# Altium integrated library TI_Logic_Little_Logic.IntLib: 1164 symbols (part 27 of 35)
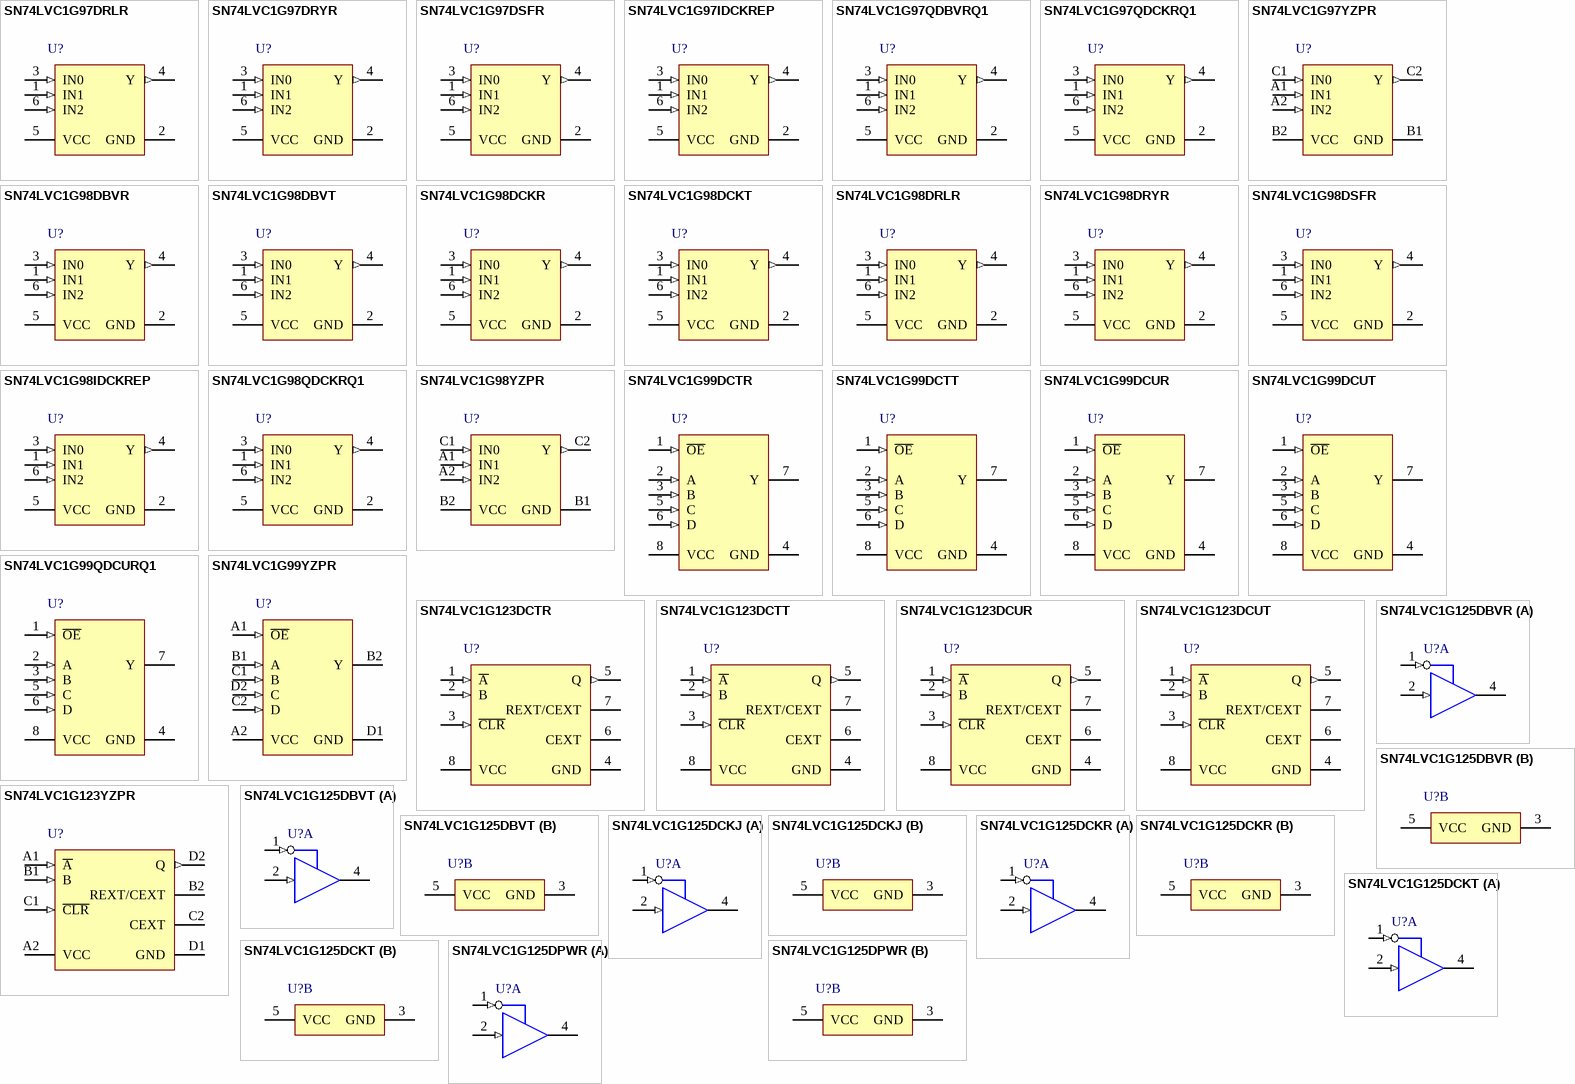
[diagram p86: symbols SN74LVC1G97DRLR to SN74LVC1G125DPWR]

## SN74LVC1G98YZPR
designator U?
Configurable Multiple-Function Gate, YZP0006ADAD, LARGE T&R; Generic Part Number: SN74LVC1G98; Manufacturer: Texas Instruments; PartNumber: SN74LVC1G98YZPR; VCC(Min)(V): 1.65; VCC(Max)(V): 5.5; Output Type: CMOS; ICC @ Nom Voltage(Max)(mA): 0.01; Input Type: CMOS/TTL; Bits(#): 1; F @ Nom Voltage(Max)(Mhz): 150; Rating: Catalog; Technology Family: LVC; Voltage(Nom)(V): 1.8,2.5,3.3,5; Schmitt Trigger: No; Output Drive (IOL/IOH)(Max)(mA): 32/-32; tpd @ Nom Voltage(Max)(ns): 16.4,9.3,7.3,6.1; Logic: True; Sub-Family: Configurable Logic; DatasheetVersion: SCES417L; PackageReference: YZP0006ADAD; Supplier 1: Mouser; Supplier Part Number 1: 595-SN74LVC1G98YZPR; Supplier 2: Digi-Key; Supplier Part Number 2: 296-23274-2-ND; Supplier 3: Digi-Key; Supplier Part Number 3: 296-23274-1-ND; Supplier 4: Digi-Key; Supplier Part Number 4: 296-23274-6-ND; Operating Temperature Range(C): -40 to 125; Gate Type: Configurable; 3-State Output: No; ComponentLink1Description: Manufacturer URL; ComponentLink1URL: http://www.ti.com/; ComponentLink2Description: Datasheet; ComponentLink2URL: http://www.ti.com/lit/ds/symlink/sn74lvc1g98.pdf
footprint YZP0006ADAD (BGA, 6-Balls, Body 1.39x0.89mm, Pitch 0.5mm)
pins: A1 IN1 (in), A2 IN2 (in), B1 GND (power), B2 VCC (power), C1 IN0 (in), C2 Y (out)

## SN74LVC1G99DCTR
designator U?
Ultra-Configurable Multi-Function Gate With 3-State Outputs, DCT0008A, LARGE T&R; Generic Part Number: SN74LVC1G99; Manufacturer: Texas Instruments; PartNumber: SN74LVC1G99DCTR; VCC(Min)(V): 1.65; VCC(Max)(V): 5.5; Output Type: CMOS; ICC @ Nom Voltage(Max)(mA): 0.01; Input Type: CMOS/TTL; Bits(#): 1; F @ Nom Voltage(Max)(Mhz): 150; Rating: Catalog; Technology Family: LVC; Voltage(Nom)(V): 1.8,2.5,3.3,5; Schmitt Trigger: No; Output Drive (IOL/IOH)(Max)(mA): 32/-32; tpd @ Nom Voltage(Max)(ns): 30.8,11.7,8.4,5.5; Logic: True; Sub-Family: Configurable Logic; 3-State Output: Yes; DatasheetVersion: SCES609G; PackageReference: DCT0008A; Supplier 1: Mouser; Supplier Part Number 1: 595-SN74LVC1G99DCTR; Supplier 2: Digi-Key; Supplier Part Number 2: 296-18590-2-ND; Supplier 3: Digi-Key; Supplier Part Number 3: 296-18590-1-ND; Supplier 4: Digi-Key; Supplier Part Number 4: 296-18590-6-ND; Operating Temperature Range(C): -40 to 125; Gate Type: Configurable; ComponentLink1Description: Manufacturer URL; ComponentLink1URL: http://www.ti.com/; ComponentLink2Description: Datasheet; ComponentLink2URL: http://www.ti.com/lit/ds/symlink/sn74lvc1g99.pdf
footprint DCT0008A_N (SOP, 8-Leads, Body 2.9x3.2mm, Pitch 0.65mm, IPC Medium Density)
footprint DCT0008A_M (SOP, 8-Leads, Body 2.9x3.2mm, Pitch 0.65mm, IPC Low Density)
footprint DCT0008A_L (SOP, 8-Leads, Body 2.9x3.2mm, Pitch 0.65mm, IPC High Density)
pins: 1 ~{OE} (in), 2 A (in), 3 B (in), 4 GND (power), 5 C (in), 6 D (in), 7 Y (hiz), 8 VCC (power)

## SN74LVC1G99DCTT
designator U?
Ultra-Configurable Multi-Function Gate With 3-State Outputs, DCT0008A, SMALL T&R; Generic Part Number: SN74LVC1G99; Manufacturer: Texas Instruments; PartNumber: SN74LVC1G99DCTT; VCC(Min)(V): 1.65; VCC(Max)(V): 5.5; Output Type: CMOS; ICC @ Nom Voltage(Max)(mA): 0.01; Input Type: CMOS/TTL; Bits(#): 1; F @ Nom Voltage(Max)(Mhz): 150; Rating: Catalog; Technology Family: LVC; Voltage(Nom)(V): 1.8,2.5,3.3,5; Schmitt Trigger: No; Output Drive (IOL/IOH)(Max)(mA): 32/-32; tpd @ Nom Voltage(Max)(ns): 30.8,11.7,8.4,5.5; Logic: True; Sub-Family: Configurable Logic; 3-State Output: Yes; DatasheetVersion: SCES609G; PackageReference: DCT0008A; Supplier 1: Mouser; Supplier Part Number 1: 595-SN74LVC1G99DCTT; Supplier 2: Digi-Key; Supplier Part Number 2: SN74LVC1G99DCTT-ND; Operating Temperature Range(C): -40 to 125; Gate Type: Configurable; ComponentLink1Description: Manufacturer URL; ComponentLink1URL: http://www.ti.com/; ComponentLink2Description: Datasheet; ComponentLink2URL: http://www.ti.com/lit/ds/symlink/sn74lvc1g99.pdf
footprint DCT0008A_N (SOP, 8-Leads, Body 2.9x3.2mm, Pitch 0.65mm, IPC Medium Density)
footprint DCT0008A_M (SOP, 8-Leads, Body 2.9x3.2mm, Pitch 0.65mm, IPC Low Density)
footprint DCT0008A_L (SOP, 8-Leads, Body 2.9x3.2mm, Pitch 0.65mm, IPC High Density)
pins: 1 ~{OE} (in), 2 A (in), 3 B (in), 4 GND (power), 5 C (in), 6 D (in), 7 Y (hiz), 8 VCC (power)

## SN74LVC1G99DCUR
designator U?
Ultra-Configurable Multi-Function Gate With 3-State Outputs, DCU0008A, LARGE T&R; Generic Part Number: SN74LVC1G99; Manufacturer: Texas Instruments; PartNumber: SN74LVC1G99DCUR; VCC(Min)(V): 1.65; VCC(Max)(V): 5.5; Output Type: CMOS; ICC @ Nom Voltage(Max)(mA): 0.01; Input Type: CMOS/TTL; Bits(#): 1; F @ Nom Voltage(Max)(Mhz): 150; Rating: Catalog; Technology Family: LVC; Voltage(Nom)(V): 1.8,2.5,3.3,5; Schmitt Trigger: No; Output Drive (IOL/IOH)(Max)(mA): 32/-32; tpd @ Nom Voltage(Max)(ns): 30.8,11.7,8.4,5.5; Logic: True; Sub-Family: Configurable Logic; 3-State Output: Yes; DatasheetVersion: SCES609G; PackageReference: DCU0008A; Supplier 1: Mouser; Supplier Part Number 1: 595-SN74LVC1G99DCUR; Supplier 2: Digi-Key; Supplier Part Number 2: 296-18795-2-ND; Supplier 3: Digi-Key; Supplier Part Number 3: 296-18795-1-ND; Supplier 4: Digi-Key; Supplier Part Number 4: 296-18795-6-ND; Operating Temperature Range(C): -40 to 125; Gate Type: Configurable; ComponentLink1Description: Manufacturer URL; ComponentLink1URL: http://www.ti.com/; ComponentLink2Description: Datasheet; ComponentLink2URL: http://www.ti.com/lit/ds/symlink/sn74lvc1g99.pdf
footprint DCU0008A_N (SOP, 8-Leads, Body 2.4x2.1mm, Pitch 0.5mm, IPC Medium Density)
footprint DCU0008A_M (SOP, 8-Leads, Body 2.4x2.1mm, Pitch 0.5mm, IPC Low Density)
footprint DCU0008A_L (SOP, 8-Leads, Body 2.4x2.1mm, Pitch 0.5mm, IPC High Density)
pins: 1 ~{OE} (in), 2 A (in), 3 B (in), 4 GND (power), 5 C (in), 6 D (in), 7 Y (hiz), 8 VCC (power)

## SN74LVC1G99DCUT
designator U?
Ultra-Configurable Multi-Function Gate With 3-State Outputs, DCU0008A, SMALL T&R; Generic Part Number: SN74LVC1G99; Manufacturer: Texas Instruments; PartNumber: SN74LVC1G99DCUT; VCC(Min)(V): 1.65; VCC(Max)(V): 5.5; Output Type: CMOS; ICC @ Nom Voltage(Max)(mA): 0.01; Input Type: CMOS/TTL; Bits(#): 1; F @ Nom Voltage(Max)(Mhz): 150; Rating: Catalog; Technology Family: LVC; Voltage(Nom)(V): 1.8,2.5,3.3,5; Schmitt Trigger: No; Output Drive (IOL/IOH)(Max)(mA): 32/-32; tpd @ Nom Voltage(Max)(ns): 30.8,11.7,8.4,5.5; Logic: True; Sub-Family: Configurable Logic; 3-State Output: Yes; DatasheetVersion: SCES609G; PackageReference: DCU0008A; Supplier 1: Mouser; Supplier Part Number 1: 595-SN74LVC1G99DCUT; Supplier 2: Digi-Key; Supplier Part Number 2: SN74LVC1G99DCUT-ND; Operating Temperature Range(C): -40 to 125; Gate Type: Configurable; ComponentLink1Description: Manufacturer URL; ComponentLink1URL: http://www.ti.com/; ComponentLink2Description: Datasheet; ComponentLink2URL: http://www.ti.com/lit/ds/symlink/sn74lvc1g99.pdf
footprint DCU0008A_N (SOP, 8-Leads, Body 2.4x2.1mm, Pitch 0.5mm, IPC Medium Density)
footprint DCU0008A_M (SOP, 8-Leads, Body 2.4x2.1mm, Pitch 0.5mm, IPC Low Density)
footprint DCU0008A_L (SOP, 8-Leads, Body 2.4x2.1mm, Pitch 0.5mm, IPC High Density)
pins: 1 ~{OE} (in), 2 A (in), 3 B (in), 4 GND (power), 5 C (in), 6 D (in), 7 Y (hiz), 8 VCC (power)

## SN74LVC1G99QDCURQ1
designator U?
Automotive Catalog Ultra-Configurable Multi-Function Gate With 3-State Outputs, DCU0008A, LARGE T&R; Generic Part Number: SN74LVC1G99-Q1; Manufacturer: Texas Instruments; PartNumber: SN74LVC1G99QDCURQ1; VCC(Min)(V): 1.65; VCC(Max)(V): 5.5; Output Type: CMOS; ICC @ Nom Voltage(Max)(mA): 0.01; Input Type: CMOS/TTL; Bits(#): 1; F @ Nom Voltage(Max)(Mhz): 150; Technology Family: LVC; Voltage(Nom)(V): 1.8,2.5,3.3,5; Schmitt Trigger: No; Output Drive (IOL/IOH)(Max)(mA): 32/-32; tpd @ Nom Voltage(Max)(ns): 32.8,13.7,10.4,6.9; Logic: True; Sub-Family: Configurable Logic; 3-State Output: Yes; DatasheetVersion: SCES828; PackageReference: DCU0008A; Supplier 1: Mouser; Supplier Part Number 1: 595-74LVC1G99QDCURQ1; Supplier 2: Digi-Key; Supplier Part Number 2: 296-29053-2-ND; Supplier 3: Digi-Key; Supplier Part Number 3: 296-29053-1-ND; Supplier 4: Digi-Key; Supplier Part Number 4: 296-29053-6-ND; Operating Temperature Range(C): -40 to 125; Rating: Automotive; Gate Type: Configurable; ComponentLink1Description: Manufacturer URL; ComponentLink1URL: http://www.ti.com/; ComponentLink2Description: Datasheet; ComponentLink2URL: http://www.ti.com/lit/ds/symlink/sn74lvc1g99-q1.pdf
footprint DCU0008A_N (SOP, 8-Leads, Body 2.4x2.1mm, Pitch 0.5mm, IPC Medium Density)
footprint DCU0008A_M (SOP, 8-Leads, Body 2.4x2.1mm, Pitch 0.5mm, IPC Low Density)
footprint DCU0008A_L (SOP, 8-Leads, Body 2.4x2.1mm, Pitch 0.5mm, IPC High Density)
pins: 1 ~{OE} (in), 2 A (in), 3 B (in), 4 GND (power), 5 C (in), 6 D (in), 7 Y (hiz), 8 VCC (power)

## SN74LVC1G99YZPR
designator U?
Ultra-Configurable Multi-Function Gate With 3-State Outputs, YZP0008ADAD, LARGE T&R; Generic Part Number: SN74LVC1G99; Manufacturer: Texas Instruments; PartNumber: SN74LVC1G99YZPR; VCC(Min)(V): 1.65; VCC(Max)(V): 5.5; Output Type: CMOS; ICC @ Nom Voltage(Max)(mA): 0.01; Input Type: CMOS/TTL; Bits(#): 1; F @ Nom Voltage(Max)(Mhz): 150; Rating: Catalog; Technology Family: LVC; Voltage(Nom)(V): 1.8,2.5,3.3,5; Schmitt Trigger: No; Output Drive (IOL/IOH)(Max)(mA): 32/-32; tpd @ Nom Voltage(Max)(ns): 30.8,11.7,8.4,5.5; Logic: True; Sub-Family: Configurable Logic; 3-State Output: Yes; DatasheetVersion: SCES609G; PackageReference: YZP0008ADAD; Supplier 1: Mouser; Supplier Part Number 1: 595-SN74LVC1G99YZPR; Supplier 2: Digi-Key; Supplier Part Number 2: 296-17900-2-ND; Supplier 3: Digi-Key; Supplier Part Number 3: 296-17900-1-ND; Supplier 4: Digi-Key; Supplier Part Number 4: 296-17900-6-ND; Operating Temperature Range(C): -40 to 125; Gate Type: Configurable; ComponentLink1Description: Manufacturer URL; ComponentLink1URL: http://www.ti.com/; ComponentLink2Description: Datasheet; ComponentLink2URL: http://www.ti.com/lit/ds/symlink/sn74lvc1g99.pdf
footprint YZP0008ADAD (BGA, 8-Balls, Body 1.89x0.89mm, Pitch 0.5mm)
pins: A1 ~{OE} (in), A2 VCC (power), B1 A (in), B2 Y (hiz), C1 B (in), C2 D (in), D1 GND (power), D2 C (in)

## SN74LVC1G123DCTR
designator U?
Single Retriggerable Monostable Multivibrator with Schmitt-Trigger Inputs, DCT0008A, LARGE T&R; Generic Part Number: SN74LVC1G123; Manufacturer: Texas Instruments; PartNumber: SN74LVC1G123DCTR; VCC(Min)(V): 1.65; VCC(Max)(V): 5.5; Output Type: CMOS; ICC @ Nom Voltage(Max)(mA): 0.02; Input Type: CMOS/TTL; Bits(#): 1; F @ Nom Voltage(Max)(Mhz): 150; Rating: Catalog; Technology Family: LVC; Voltage(Nom)(V): 1.8,2.5,3.3,5; Schmitt Trigger: Yes; Output Drive (IOL/IOH)(Max)(mA): 32/-32; tpd @ Nom Voltage(Max)(ns): 34,11,8,5.5; Logic: True; 3-State Output: No; DatasheetVersion: SCES586C; PackageReference: DCT0008A; Supplier 1: Mouser; Supplier Part Number 1: 595-SN74LVC1G123DCTR; Supplier 2: Digi-Key; Supplier Part Number 2: 296-18758-2-ND; Supplier 3: Digi-Key; Supplier Part Number 3: 296-18758-1-ND; Supplier 4: Digi-Key; Supplier Part Number 4: 296-18758-6-ND; Operating Temperature Range(C): -40 to 125,-40 to 85; Sub-Family: Monostable Multivibrator; Specialty Logic Family: Monostable Multivibrator; ComponentLink1Description: Manufacturer URL; ComponentLink1URL: http://www.ti.com/; ComponentLink2Description: Datasheet; ComponentLink2URL: http://www.ti.com/lit/ds/symlink/sn74lvc1g123.pdf
footprint DCT0008A_N (SOP, 8-Leads, Body 2.9x3.2mm, Pitch 0.65mm, IPC Medium Density)
footprint DCT0008A_M (SOP, 8-Leads, Body 2.9x3.2mm, Pitch 0.65mm, IPC Low Density)
footprint DCT0008A_L (SOP, 8-Leads, Body 2.9x3.2mm, Pitch 0.65mm, IPC High Density)
pins: 1 ~{A} (in), 2 B (in), 3 ~{CLR} (in), 4 GND (power), 5 Q (out), 6 CEXT, 7 REXT/CEXT, 8 VCC (power)

## SN74LVC1G123DCTT
designator U?
Single Retriggerable Monostable Multivibrator with Schmitt-Trigger Inputs, DCT0008A, SMALL T&R; Generic Part Number: SN74LVC1G123; Manufacturer: Texas Instruments; PartNumber: SN74LVC1G123DCTT; VCC(Min)(V): 1.65; VCC(Max)(V): 5.5; Output Type: CMOS; ICC @ Nom Voltage(Max)(mA): 0.02; Input Type: CMOS/TTL; Bits(#): 1; F @ Nom Voltage(Max)(Mhz): 150; Rating: Catalog; Technology Family: LVC; Voltage(Nom)(V): 1.8,2.5,3.3,5; Schmitt Trigger: Yes; Output Drive (IOL/IOH)(Max)(mA): 32/-32; tpd @ Nom Voltage(Max)(ns): 34,11,8,5.5; Logic: True; 3-State Output: No; DatasheetVersion: SCES586C; PackageReference: DCT0008A; Supplier 1: Mouser; Supplier Part Number 1: 595-SN74LVC1G123DCTT; Supplier 2: Digi-Key; Supplier Part Number 2: 296-32292-2-ND; Supplier 3: Digi-Key; Supplier Part Number 3: 296-32292-1-ND; Supplier 4: Digi-Key; Supplier Part Number 4: 296-32292-6-ND; Operating Temperature Range(C): -40 to 125,-40 to 85; Sub-Family: Monostable Multivibrator; Specialty Logic Family: Monostable Multivibrator; ComponentLink1Description: Manufacturer URL; ComponentLink1URL: http://www.ti.com/; ComponentLink2Description: Datasheet; ComponentLink2URL: http://www.ti.com/lit/ds/symlink/sn74lvc1g123.pdf
footprint DCT0008A_N (SOP, 8-Leads, Body 2.9x3.2mm, Pitch 0.65mm, IPC Medium Density)
footprint DCT0008A_M (SOP, 8-Leads, Body 2.9x3.2mm, Pitch 0.65mm, IPC Low Density)
footprint DCT0008A_L (SOP, 8-Leads, Body 2.9x3.2mm, Pitch 0.65mm, IPC High Density)
pins: 1 ~{A} (in), 2 B (in), 3 ~{CLR} (in), 4 GND (power), 5 Q (out), 6 CEXT, 7 REXT/CEXT, 8 VCC (power)

## SN74LVC1G123DCUR
designator U?
Single Retriggerable Monostable Multivibrator with Schmitt-Trigger Inputs, DCU0008A, LARGE T&R; Generic Part Number: SN74LVC1G123; Manufacturer: Texas Instruments; PartNumber: SN74LVC1G123DCUR; VCC(Min)(V): 1.65; VCC(Max)(V): 5.5; Output Type: CMOS; ICC @ Nom Voltage(Max)(mA): 0.02; Input Type: CMOS/TTL; Bits(#): 1; F @ Nom Voltage(Max)(Mhz): 150; Rating: Catalog; Technology Family: LVC; Voltage(Nom)(V): 1.8,2.5,3.3,5; Schmitt Trigger: Yes; Output Drive (IOL/IOH)(Max)(mA): 32/-32; tpd @ Nom Voltage(Max)(ns): 34,11,8,5.5; Logic: True; 3-State Output: No; DatasheetVersion: SCES586C; PackageReference: DCU0008A; Supplier 1: Mouser; Supplier Part Number 1: 595-SN74LVC1G123DCUR; Supplier 2: Digi-Key; Supplier Part Number 2: 296-18578-2-ND; Supplier 3: Digi-Key; Supplier Part Number 3: 296-18578-1-ND; Supplier 4: Digi-Key; Supplier Part Number 4: 296-18578-6-ND; Operating Temperature Range(C): -40 to 125,-40 to 85; Sub-Family: Monostable Multivibrator; Specialty Logic Family: Monostable Multivibrator; ComponentLink1Description: Manufacturer URL; ComponentLink1URL: http://www.ti.com/; ComponentLink2Description: Datasheet; ComponentLink2URL: http://www.ti.com/lit/ds/symlink/sn74lvc1g123.pdf
footprint DCU0008A_N (SOP, 8-Leads, Body 2.4x2.1mm, Pitch 0.5mm, IPC Medium Density)
footprint DCU0008A_M (SOP, 8-Leads, Body 2.4x2.1mm, Pitch 0.5mm, IPC Low Density)
footprint DCU0008A_L (SOP, 8-Leads, Body 2.4x2.1mm, Pitch 0.5mm, IPC High Density)
pins: 1 ~{A} (in), 2 B (in), 3 ~{CLR} (in), 4 GND (power), 5 Q (out), 6 CEXT, 7 REXT/CEXT, 8 VCC (power)

## SN74LVC1G123DCUT
designator U?
Single Retriggerable Monostable Multivibrator with Schmitt-Trigger Inputs, DCU0008A, SMALL T&R; Generic Part Number: SN74LVC1G123; Manufacturer: Texas Instruments; PartNumber: SN74LVC1G123DCUT; VCC(Min)(V): 1.65; VCC(Max)(V): 5.5; Output Type: CMOS; ICC @ Nom Voltage(Max)(mA): 0.02; Input Type: CMOS/TTL; Bits(#): 1; F @ Nom Voltage(Max)(Mhz): 150; Rating: Catalog; Technology Family: LVC; Voltage(Nom)(V): 1.8,2.5,3.3,5; Schmitt Trigger: Yes; Output Drive (IOL/IOH)(Max)(mA): 32/-32; tpd @ Nom Voltage(Max)(ns): 34,11,8,5.5; Logic: True; 3-State Output: No; DatasheetVersion: SCES586C; PackageReference: DCU0008A; Supplier 1: Mouser; Supplier Part Number 1: 595-SN74LVC1G123DCUT; Supplier 2: Digi-Key; Supplier Part Number 2: 296-26594-2-ND; Supplier 3: Digi-Key; Supplier Part Number 3: 296-26594-1-ND; Supplier 4: Digi-Key; Supplier Part Number 4: 296-26594-6-ND; Operating Temperature Range(C): -40 to 125,-40 to 85; Sub-Family: Monostable Multivibrator; Specialty Logic Family: Monostable Multivibrator; ComponentLink1Description: Manufacturer URL; ComponentLink1URL: http://www.ti.com/; ComponentLink2Description: Datasheet; ComponentLink2URL: http://www.ti.com/lit/ds/symlink/sn74lvc1g123.pdf
footprint DCU0008A_N (SOP, 8-Leads, Body 2.4x2.1mm, Pitch 0.5mm, IPC Medium Density)
footprint DCU0008A_M (SOP, 8-Leads, Body 2.4x2.1mm, Pitch 0.5mm, IPC Low Density)
footprint DCU0008A_L (SOP, 8-Leads, Body 2.4x2.1mm, Pitch 0.5mm, IPC High Density)
pins: 1 ~{A} (in), 2 B (in), 3 ~{CLR} (in), 4 GND (power), 5 Q (out), 6 CEXT, 7 REXT/CEXT, 8 VCC (power)

## SN74LVC1G123YZPR
designator U?
Single Retriggerable Monostable Multivibrator with Schmitt-Trigger Inputs, YZP0008ADAD, LARGE T&R; Generic Part Number: SN74LVC1G123; Manufacturer: Texas Instruments; PartNumber: SN74LVC1G123YZPR; VCC(Min)(V): 1.65; VCC(Max)(V): 5.5; Output Type: CMOS; ICC @ Nom Voltage(Max)(mA): 0.02; Input Type: CMOS/TTL; Bits(#): 1; F @ Nom Voltage(Max)(Mhz): 150; Rating: Catalog; Technology Family: LVC; Voltage(Nom)(V): 1.8,2.5,3.3,5; Schmitt Trigger: Yes; Output Drive (IOL/IOH)(Max)(mA): 32/-32; tpd @ Nom Voltage(Max)(ns): 34,11,8,5.5; Logic: True; 3-State Output: No; DatasheetVersion: SCES586C; PackageReference: YZP0008ADAD; Supplier 1: Mouser; Supplier Part Number 1: 595-SN74LVC1G123YZPR; Supplier 2: Digi-Key; Supplier Part Number 2: 296-21058-2-ND; Supplier 3: Digi-Key; Supplier Part Number 3: 296-21058-1-ND; Supplier 4: Digi-Key; Supplier Part Number 4: 296-21058-6-ND; Operating Temperature Range(C): -40 to 125,-40 to 85; Sub-Family: Monostable Multivibrator; Specialty Logic Family: Monostable Multivibrator; ComponentLink1Description: Manufacturer URL; ComponentLink1URL: http://www.ti.com/; ComponentLink2Description: Datasheet; ComponentLink2URL: http://www.ti.com/lit/ds/symlink/sn74lvc1g123.pdf
footprint YZP0008ADAD (BGA, 8-Balls, Body 1.89x0.89mm, Pitch 0.5mm)
pins: A1 ~{A} (in), A2 VCC (power), B1 B (in), B2 REXT/CEXT, C1 ~{CLR} (in), C2 CEXT, D1 GND (power), D2 Q (out)

## SN74LVC1G125DBVR
designator U?
Single Bus Buffer Gate With 3-State Outputs, DBV0005A, LARGE T&R; Generic Part Number: SN74LVC1G125; Manufacturer: Texas Instruments; PartNumber: SN74LVC1G125DBVR; VCC(Min)(V): 1.65; VCC(Max)(V): 5.5; Output Type: CMOS; ICC @ Nom Voltage(Max)(mA): 0.01; Input Type: CMOS/TTL; Bits(#): 1; F @ Nom Voltage(Max)(Mhz): 150; Rating: Catalog; Technology Family: LVC; Voltage(Nom)(V): 1.8,2.5,3.3,5; Schmitt Trigger: No; Output Drive (IOL/IOH)(Max)(mA): 32/-32; tpd @ Nom Voltage(Max)(ns): 9,5.5,4.5,4; Logic: True; Sub-Family: Non-Inverting Buffer/Driver; 3-State Output: Yes; DatasheetVersion: SCES223T; PackageReference: DBV0005A; Supplier 1: Mouser; Supplier Part Number 1: 595-SN74LVC1G125DBVR; Supplier 2: Digi-Key; Supplier Part Number 2: 296-11603-2-ND; Supplier 3: Digi-Key; Supplier Part Number 3: 296-11603-1-ND; Supplier 4: Digi-Key; Supplier Part Number 4: 296-11603-6-ND; Operating Temperature Range(C): -40 to 125,-40 to 85; ComponentLink1Description: Manufacturer URL; ComponentLink1URL: http://www.ti.com/; ComponentLink2Description: Datasheet; ComponentLink2URL: http://www.ti.com/lit/ds/symlink/sn74lvc1g125.pdf
footprint DBV0005A_N (SOT23, 5-Leads, Body 3.05x1.75mm, Pitch 0.95mm, IPC Medium Density)
footprint DBV0005A_M (SOT23, 5-Leads, Body 3.05x1.75mm, Pitch 0.95mm, IPC Low Density)
footprint DBV0005A_L (SOT23, 5-Leads, Body 3.05x1.75mm, Pitch 0.95mm, IPC High Density)
part A pins: 1 ~{OE} (in), 2 A (in), 4 Y (hiz)
part B pins: 3 GND (power), 5 VCC (power)

## SN74LVC1G125DBVT
designator U?
Single Bus Buffer Gate With 3-State Outputs, DBV0005A, SMALL T&R; Generic Part Number: SN74LVC1G125; Manufacturer: Texas Instruments; PartNumber: SN74LVC1G125DBVT; VCC(Min)(V): 1.65; VCC(Max)(V): 5.5; Output Type: CMOS; ICC @ Nom Voltage(Max)(mA): 0.01; Input Type: CMOS/TTL; Bits(#): 1; F @ Nom Voltage(Max)(Mhz): 150; Rating: Catalog; Technology Family: LVC; Voltage(Nom)(V): 1.8,2.5,3.3,5; Schmitt Trigger: No; Output Drive (IOL/IOH)(Max)(mA): 32/-32; tpd @ Nom Voltage(Max)(ns): 9,5.5,4.5,4; Logic: True; Sub-Family: Non-Inverting Buffer/Driver; 3-State Output: Yes; DatasheetVersion: SCES223T; PackageReference: DBV0005A; Supplier 1: Mouser; Supplier Part Number 1: 595-SN74LVC1G125DBVT; Supplier 2: Digi-Key; Supplier Part Number 2: 296-26595-2-ND; Supplier 3: Digi-Key; Supplier Part Number 3: 296-26595-1-ND; Supplier 4: Digi-Key; Supplier Part Number 4: 296-26595-6-ND; Operating Temperature Range(C): -40 to 125,-40 to 85; ComponentLink1Description: Manufacturer URL; ComponentLink1URL: http://www.ti.com/; ComponentLink2Description: Datasheet; ComponentLink2URL: http://www.ti.com/lit/ds/symlink/sn74lvc1g125.pdf
footprint DBV0005A_N (SOT23, 5-Leads, Body 3.05x1.75mm, Pitch 0.95mm, IPC Medium Density)
footprint DBV0005A_M (SOT23, 5-Leads, Body 3.05x1.75mm, Pitch 0.95mm, IPC Low Density)
footprint DBV0005A_L (SOT23, 5-Leads, Body 3.05x1.75mm, Pitch 0.95mm, IPC High Density)
part A pins: 1 ~{OE} (in), 2 A (in), 4 Y (hiz)
part B pins: 3 GND (power), 5 VCC (power)

## SN74LVC1G125DCKJ
designator U?
Single Bus Buffer Gate With 3-State Outputs, DCK0005A, LARGE T&R; Generic Part Number: SN74LVC1G125; Manufacturer: Texas Instruments; PartNumber: SN74LVC1G125DCKJ; VCC(Min)(V): 1.65; VCC(Max)(V): 5.5; Output Type: CMOS; ICC @ Nom Voltage(Max)(mA): 0.01; Input Type: CMOS/TTL; Bits(#): 1; F @ Nom Voltage(Max)(Mhz): 150; Rating: Catalog; Technology Family: LVC; Voltage(Nom)(V): 1.8,2.5,3.3,5; Schmitt Trigger: No; Output Drive (IOL/IOH)(Max)(mA): 32/-32; tpd @ Nom Voltage(Max)(ns): 9,5.5,4.5,4; Logic: True; Sub-Family: Non-Inverting Buffer/Driver; 3-State Output: Yes; DatasheetVersion: SCES223T; PackageReference: DCK0005A; Supplier 1: Mouser; Supplier Part Number 1: 595-SN74LVC1G125DCKJ; Supplier 2: Digi-Key; Supplier Part Number 2: SN74LVC1G125DCKJ-ND; Operating Temperature Range(C): -40 to 125,-40 to 85; ComponentLink1Description: Manufacturer URL; ComponentLink1URL: http://www.ti.com/; ComponentLink2Description: Datasheet; ComponentLink2URL: http://www.ti.com/lit/ds/symlink/sn74lvc1g125.pdf
footprint DCK0005A_N (SOT23, 5-Leads, Body 2.15x1.4mm, Pitch 0.65mm, IPC Medium Density)
footprint DCK0005A_M (SOT23, 5-Leads, Body 2.15x1.4mm, Pitch 0.65mm, IPC Low Density)
footprint DCK0005A_L (SOT23, 5-Leads, Body 2.15x1.4mm, Pitch 0.65mm, IPC High Density)
part A pins: 1 ~{OE} (in), 2 A (in), 4 Y (hiz)
part B pins: 3 GND (power), 5 VCC (power)

## SN74LVC1G125DCKR
designator U?
Single Bus Buffer Gate With 3-State Outputs, DCK0005A, LARGE T&R; Generic Part Number: SN74LVC1G125; Manufacturer: Texas Instruments; PartNumber: SN74LVC1G125DCKR; VCC(Min)(V): 1.65; VCC(Max)(V): 5.5; Output Type: CMOS; ICC @ Nom Voltage(Max)(mA): 0.01; Input Type: CMOS/TTL; Bits(#): 1; F @ Nom Voltage(Max)(Mhz): 150; Rating: Catalog; Technology Family: LVC; Voltage(Nom)(V): 1.8,2.5,3.3,5; Schmitt Trigger: No; Output Drive (IOL/IOH)(Max)(mA): 32/-32; tpd @ Nom Voltage(Max)(ns): 9,5.5,4.5,4; Logic: True; Sub-Family: Non-Inverting Buffer/Driver; 3-State Output: Yes; DatasheetVersion: SCES223T; PackageReference: DCK0005A; Supplier 1: Mouser; Supplier Part Number 1: 595-SN74LVC1G125DCKR; Supplier 2: Digi-Key; Supplier Part Number 2: 296-11604-2-ND; Supplier 3: Digi-Key; Supplier Part Number 3: 296-11604-1-ND; Supplier 4: Digi-Key; Supplier Part Number 4: 296-11604-6-ND; Operating Temperature Range(C): -40 to 125,-40 to 85; ComponentLink1Description: Manufacturer URL; ComponentLink1URL: http://www.ti.com/; ComponentLink2Description: Datasheet; ComponentLink2URL: http://www.ti.com/lit/ds/symlink/sn74lvc1g125.pdf
footprint DCK0005A_N (SOT23, 5-Leads, Body 2.15x1.4mm, Pitch 0.65mm, IPC Medium Density)
footprint DCK0005A_M (SOT23, 5-Leads, Body 2.15x1.4mm, Pitch 0.65mm, IPC Low Density)
footprint DCK0005A_L (SOT23, 5-Leads, Body 2.15x1.4mm, Pitch 0.65mm, IPC High Density)
part A pins: 1 ~{OE} (in), 2 A (in), 4 Y (hiz)
part B pins: 3 GND (power), 5 VCC (power)

## SN74LVC1G125DCKT
designator U?
Single Bus Buffer Gate With 3-State Outputs, DCK0005A, SMALL T&R; Generic Part Number: SN74LVC1G125; Manufacturer: Texas Instruments; PartNumber: SN74LVC1G125DCKT; VCC(Min)(V): 1.65; VCC(Max)(V): 5.5; Output Type: CMOS; ICC @ Nom Voltage(Max)(mA): 0.01; Input Type: CMOS/TTL; Bits(#): 1; F @ Nom Voltage(Max)(Mhz): 150; Rating: Catalog; Technology Family: LVC; Voltage(Nom)(V): 1.8,2.5,3.3,5; Schmitt Trigger: No; Output Drive (IOL/IOH)(Max)(mA): 32/-32; tpd @ Nom Voltage(Max)(ns): 9,5.5,4.5,4; Logic: True; Sub-Family: Non-Inverting Buffer/Driver; 3-State Output: Yes; DatasheetVersion: SCES223T; PackageReference: DCK0005A; Supplier 1: Mouser; Supplier Part Number 1: 595-SN74LVC1G125DCKT; Supplier 2: Digi-Key; Supplier Part Number 2: 296-26596-2-ND; Supplier 3: Digi-Key; Supplier Part Number 3: 296-26596-1-ND; Supplier 4: Digi-Key; Supplier Part Number 4: 296-26596-6-ND; Operating Temperature Range(C): -40 to 125,-40 to 85; ComponentLink1Description: Manufacturer URL; ComponentLink1URL: http://www.ti.com/; ComponentLink2Description: Datasheet; ComponentLink2URL: http://www.ti.com/lit/ds/symlink/sn74lvc1g125.pdf
footprint DCK0005A_N (SOT23, 5-Leads, Body 2.15x1.4mm, Pitch 0.65mm, IPC Medium Density)
footprint DCK0005A_M (SOT23, 5-Leads, Body 2.15x1.4mm, Pitch 0.65mm, IPC Low Density)
footprint DCK0005A_L (SOT23, 5-Leads, Body 2.15x1.4mm, Pitch 0.65mm, IPC High Density)
part A pins: 1 ~{OE} (in), 2 A (in), 4 Y (hiz)
part B pins: 3 GND (power), 5 VCC (power)

## SN74LVC1G125DPWR
designator U?
Single Bus Buffer Gate With 3-State Outputs, DPW0004A, LARGE T&R; Generic Part Number: SN74LVC1G125; Manufacturer: Texas Instruments; PartNumber: SN74LVC1G125DPWR; VCC(Min)(V): 1.65; VCC(Max)(V): 5.5; Output Type: CMOS; ICC @ Nom Voltage(Max)(mA): 0.01; Input Type: CMOS/TTL; Bits(#): 1; F @ Nom Voltage(Max)(Mhz): 150; Rating: Catalog; Technology Family: LVC; Voltage(Nom)(V): 1.8,2.5,3.3,5; Schmitt Trigger: No; Output Drive (IOL/IOH)(Max)(mA): 32/-32; tpd @ Nom Voltage(Max)(ns): 9,5.5,4.5,4; Logic: True; Sub-Family: Non-Inverting Buffer/Driver; 3-State Output: Yes; DatasheetVersion: SCES223T; PackageReference: DPW0004A; Supplier 1: Mouser; Supplier Part Number 1: 595-SN74LVC1G125DPWR; Supplier 2: Digi-Key; Supplier Part Number 2: 296-38461-2-ND; Supplier 3: Digi-Key; Supplier Part Number 3: 296-38461-1-ND; Supplier 4: Digi-Key; Supplier Part Number 4: 296-38461-6-ND; Operating Temperature Range(C): -40 to 125,-40 to 85; ComponentLink1Description: Manufacturer URL; ComponentLink1URL: http://www.ti.com/; ComponentLink2Description: Datasheet; ComponentLink2URL: http://www.ti.com/lit/ds/symlink/sn74lvc1g125.pdf
footprint DPW0004A_V (SON, 5-Leads, Body 0.8x0.8mm, TI Recommend)
part A pins: 1 ~{OE} (in), 2 A (in), 4 Y (hiz)
part B pins: 3 GND (power), 5 VCC (power)

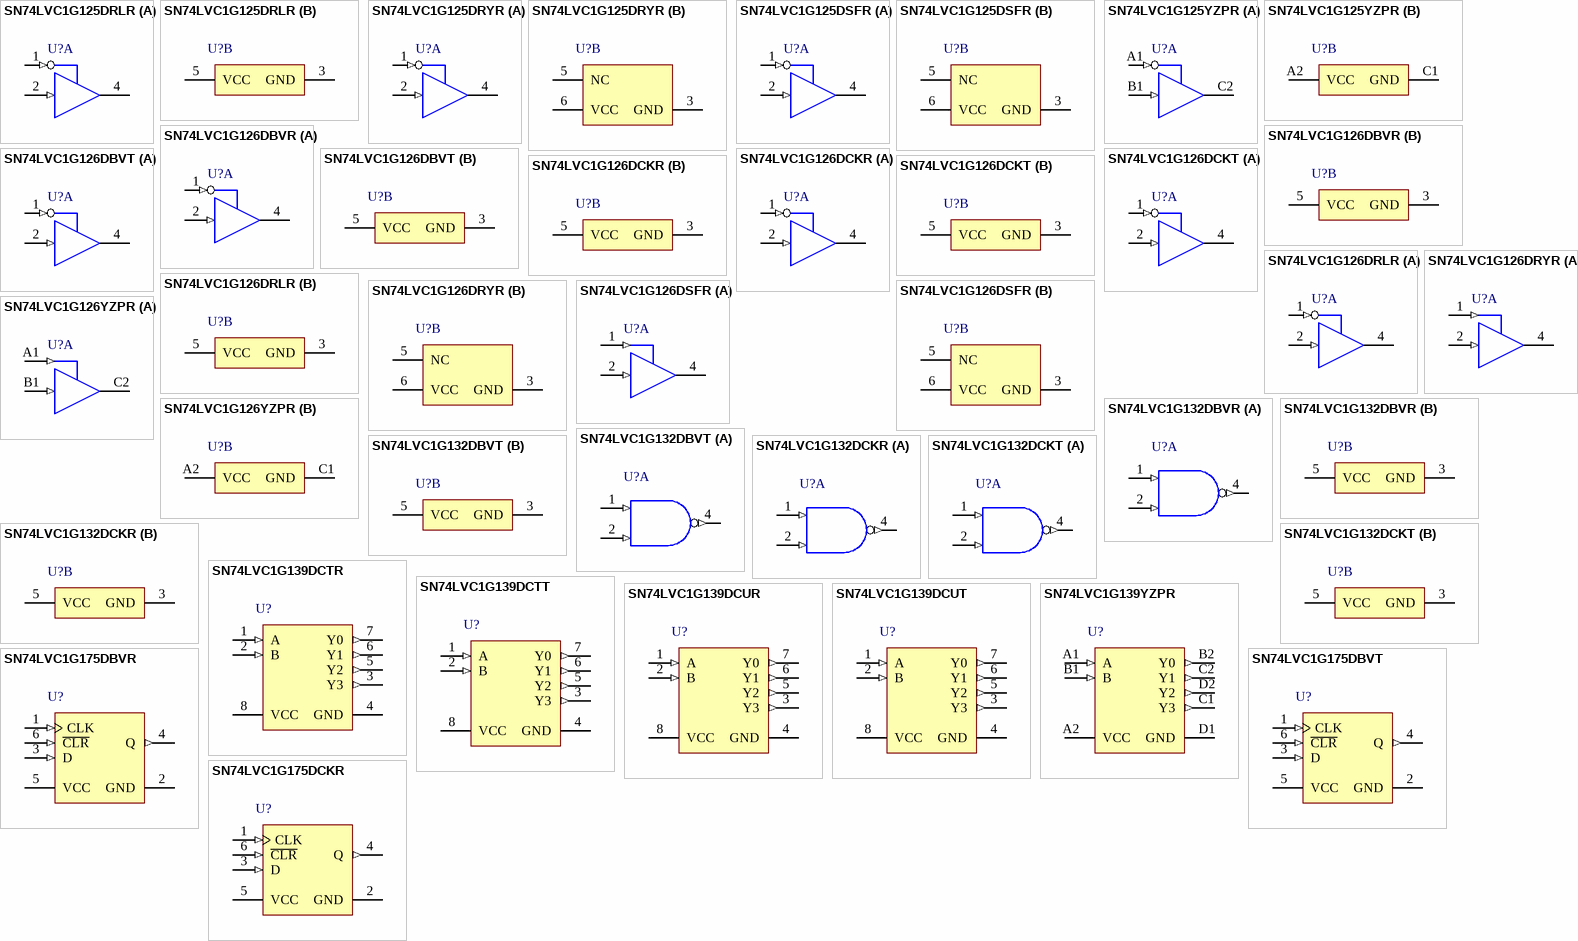
[diagram p44: symbols SN74LVC1G125DRLR to SN74LVC1G175DCKR]

## SN74LVC1G125DRLR
designator U?
Single Bus Buffer Gate With 3-State Outputs, DRL0005A, LARGE T&R; Generic Part Number: SN74LVC1G125; Manufacturer: Texas Instruments; PartNumber: SN74LVC1G125DRLR; VCC(Min)(V): 1.65; VCC(Max)(V): 5.5; Output Type: CMOS; ICC @ Nom Voltage(Max)(mA): 0.01; Input Type: CMOS/TTL; Bits(#): 1; F @ Nom Voltage(Max)(Mhz): 150; Rating: Catalog; Technology Family: LVC; Voltage(Nom)(V): 1.8,2.5,3.3,5; Schmitt Trigger: No; Output Drive (IOL/IOH)(Max)(mA): 32/-32; tpd @ Nom Voltage(Max)(ns): 9,5.5,4.5,4; Logic: True; Sub-Family: Non-Inverting Buffer/Driver; 3-State Output: Yes; DatasheetVersion: SCES223T; PackageReference: DRL0005A; Supplier 1: Mouser; Supplier Part Number 1: 595-SN74LVC1G125DRLR; Supplier 2: Digi-Key; Supplier Part Number 2: 296-18012-2-ND; Supplier 3: Digi-Key; Supplier Part Number 3: 296-18012-1-ND; Supplier 4: Digi-Key; Supplier Part Number 4: 296-18012-6-ND; Operating Temperature Range(C): -40 to 125,-40 to 85; ComponentLink1Description: Manufacturer URL; ComponentLink1URL: http://www.ti.com/; ComponentLink2Description: Datasheet; ComponentLink2URL: http://www.ti.com/lit/ds/symlink/sn74lvc1g125.pdf
footprint DRL0005A_N (SOT23, 5-Leads, Body 1.7x1.3mm, Pitch 0.5mm, IPC Medium Density)
footprint DRL0005A_M (SOT23, 5-Leads, Body 1.7x1.3mm, Pitch 0.5mm, IPC Low Density)
footprint DRL0005A_L (SOT23, 5-Leads, Body 1.7x1.3mm, Pitch 0.5mm, IPC High Density)
part A pins: 1 ~{OE} (in), 2 A (in), 4 Y (hiz)
part B pins: 3 GND (power), 5 VCC (power)

## SN74LVC1G125DRYR
designator U?
Single Bus Buffer Gate With 3-State Outputs, DRY0006A, LARGE T&R; Generic Part Number: SN74LVC1G125; Manufacturer: Texas Instruments; PartNumber: SN74LVC1G125DRYR; VCC(Min)(V): 1.65; VCC(Max)(V): 5.5; Output Type: CMOS; ICC @ Nom Voltage(Max)(mA): 0.01; Input Type: CMOS/TTL; Bits(#): 1; F @ Nom Voltage(Max)(Mhz): 150; Rating: Catalog; Technology Family: LVC; Voltage(Nom)(V): 1.8,2.5,3.3,5; Schmitt Trigger: No; Output Drive (IOL/IOH)(Max)(mA): 32/-32; tpd @ Nom Voltage(Max)(ns): 9,5.5,4.5,4; Logic: True; Sub-Family: Non-Inverting Buffer/Driver; 3-State Output: Yes; DatasheetVersion: SCES223T; PackageReference: DRY0006A; Supplier 1: Mouser; Supplier Part Number 1: 595-SN74LVC1G125DRYR; Supplier 2: Digi-Key; Supplier Part Number 2: 296-21816-2-ND; Supplier 3: Digi-Key; Supplier Part Number 3: 296-21816-1-ND; Supplier 4: Digi-Key; Supplier Part Number 4: 296-21816-6-ND; Operating Temperature Range(C): -40 to 125,-40 to 85; ComponentLink1Description: Manufacturer URL; ComponentLink1URL: http://www.ti.com/; ComponentLink2Description: Datasheet; ComponentLink2URL: http://www.ti.com/lit/ds/symlink/sn74lvc1g125.pdf
footprint DRY0006A_V (SON, 6-Leads, Body 1.45x1mm, Pitch 0.5mm)
part A pins: 1 ~{OE} (in) "Input", 2 A (in) "Input", 4 Y (hiz) "Output"
part B pins: 3 GND (power) "Ground", 5 NC "Not connected", 6 VCC (power) "Power pin"

## SN74LVC1G125DSFR
designator U?
Single Bus Buffer Gate With 3-State Outputs, DSF0006A, LARGE T&R; Generic Part Number: SN74LVC1G125; Manufacturer: Texas Instruments; PartNumber: SN74LVC1G125DSFR; VCC(Min)(V): 1.65; VCC(Max)(V): 5.5; Output Type: CMOS; ICC @ Nom Voltage(Max)(mA): 0.01; Input Type: CMOS/TTL; Bits(#): 1; F @ Nom Voltage(Max)(Mhz): 150; Rating: Catalog; Technology Family: LVC; Voltage(Nom)(V): 1.8,2.5,3.3,5; Schmitt Trigger: No; Output Drive (IOL/IOH)(Max)(mA): 32/-32; tpd @ Nom Voltage(Max)(ns): 9,5.5,4.5,4; Logic: True; Sub-Family: Non-Inverting Buffer/Driver; 3-State Output: Yes; DatasheetVersion: SCES223T; PackageReference: DSF0006A; Supplier 1: Mouser; Supplier Part Number 1: 595-SN74LVC1G125DSFR; Supplier 2: Digi-Key; Supplier Part Number 2: 296-36723-2-ND; Supplier 3: Digi-Key; Supplier Part Number 3: 296-36723-1-ND; Supplier 4: Digi-Key; Supplier Part Number 4: 296-36723-6-ND; Operating Temperature Range(C): -40 to 125,-40 to 85; ComponentLink1Description: Manufacturer URL; ComponentLink1URL: http://www.ti.com/; ComponentLink2Description: Datasheet; ComponentLink2URL: http://www.ti.com/lit/ds/symlink/sn74lvc1g125.pdf
footprint DSF0006A_V (SON, 6-Leads, Body 1x1mm, Pitch 0.35mm, TI Recommend)
part A pins: 1 ~{OE} (in) "Input", 2 A (in) "Input", 4 Y (hiz) "Output"
part B pins: 3 GND (power) "Ground", 5 NC "Not connected", 6 VCC (power) "Power pin"

## SN74LVC1G125YZPR
designator U?
Single Bus Buffer Gate With 3-State Outputs, YZP0005ADAD, LARGE T&R; Generic Part Number: SN74LVC1G125; Manufacturer: Texas Instruments; PartNumber: SN74LVC1G125YZPR; VCC(Min)(V): 1.65; VCC(Max)(V): 5.5; Output Type: CMOS; ICC @ Nom Voltage(Max)(mA): 0.01; Input Type: CMOS/TTL; Bits(#): 1; F @ Nom Voltage(Max)(Mhz): 150; Rating: Catalog; Technology Family: LVC; Voltage(Nom)(V): 1.8,2.5,3.3,5; Schmitt Trigger: No; Output Drive (IOL/IOH)(Max)(mA): 32/-32; tpd @ Nom Voltage(Max)(ns): 9,5.5,4.5,4; Logic: True; Sub-Family: Non-Inverting Buffer/Driver; 3-State Output: Yes; DatasheetVersion: SCES223T; PackageReference: YZP0005ADAD; Supplier 1: Mouser; Supplier Part Number 1: 595-SN74LVC1G125YZPR; Supplier 2: Digi-Key; Supplier Part Number 2: 296-18759-2-ND; Supplier 3: Digi-Key; Supplier Part Number 3: 296-18759-1-ND; Supplier 4: Digi-Key; Supplier Part Number 4: 296-18759-6-ND; Operating Temperature Range(C): -40 to 125,-40 to 85; ComponentLink1Description: Manufacturer URL; ComponentLink1URL: http://www.ti.com/; ComponentLink2Description: Datasheet; ComponentLink2URL: http://www.ti.com/lit/ds/symlink/sn74lvc1g125.pdf
footprint YZP0005ADAD (BGA, 5-Balls, Body 1.39x0.89mm, Pitch 0.5mm)
part A pins: A1 ~{OE} (in), B1 A (in), C2 Y (hiz)
part B pins: A2 VCC (power), C1 GND (power)

## SN74LVC1G126DBVR
designator U?
Single Bus Buffer Gate With 3-State Outputs, DBV0005A, LARGE T&R; Generic Part Number: SN74LVC1G126; Manufacturer: Texas Instruments; PartNumber: SN74LVC1G126DBVR; VCC(Min)(V): 1.65; VCC(Max)(V): 5.5; Output Type: CMOS; ICC @ Nom Voltage(Max)(mA): 0.01; Input Type: CMOS/TTL; Bits(#): 1; F @ Nom Voltage(Max)(Mhz): 150; Rating: Catalog; Technology Family: LVC; Voltage(Nom)(V): 1.8,2.5,3.3,5; Schmitt Trigger: No; Output Drive (IOL/IOH)(Max)(mA): 32/-32; tpd @ Nom Voltage(Max)(ns): 8,5.5,4.5,4; Logic: True; Sub-Family: Non-Inverting Buffer/Driver; 3-State Output: Yes; DatasheetVersion: SCES224R; PackageReference: DBV0005A; Supplier 1: Mouser; Supplier Part Number 1: 595-SN74LVC1G126DBVR; Supplier 2: Digi-Key; Supplier Part Number 2: 296-11605-2-ND; Supplier 3: Digi-Key; Supplier Part Number 3: 296-11605-1-ND; Supplier 4: Digi-Key; Supplier Part Number 4: 296-11605-6-ND; Operating Temperature Range(C): -40 to 125,-40 to 85; ComponentLink1Description: Manufacturer URL; ComponentLink1URL: http://www.ti.com/; ComponentLink2Description: Datasheet; ComponentLink2URL: http://www.ti.com/lit/ds/symlink/sn74lvc1g126.pdf
footprint DBV0005A_N (SOT23, 5-Leads, Body 3.05x1.75mm, Pitch 0.95mm, IPC Medium Density)
footprint DBV0005A_M (SOT23, 5-Leads, Body 3.05x1.75mm, Pitch 0.95mm, IPC Low Density)
footprint DBV0005A_L (SOT23, 5-Leads, Body 3.05x1.75mm, Pitch 0.95mm, IPC High Density)
part A pins: 1 OE (in), 2 A (in), 4 Y (hiz)
part B pins: 3 GND (power), 5 VCC (power)

## SN74LVC1G126DBVT
designator U?
Single Bus Buffer Gate With 3-State Outputs, DBV0005A, SMALL T&R; Generic Part Number: SN74LVC1G126; Manufacturer: Texas Instruments; PartNumber: SN74LVC1G126DBVT; VCC(Min)(V): 1.65; VCC(Max)(V): 5.5; Output Type: CMOS; ICC @ Nom Voltage(Max)(mA): 0.01; Input Type: CMOS/TTL; Bits(#): 1; F @ Nom Voltage(Max)(Mhz): 150; Rating: Catalog; Technology Family: LVC; Voltage(Nom)(V): 1.8,2.5,3.3,5; Schmitt Trigger: No; Output Drive (IOL/IOH)(Max)(mA): 32/-32; tpd @ Nom Voltage(Max)(ns): 8,5.5,4.5,4; Logic: True; Sub-Family: Non-Inverting Buffer/Driver; 3-State Output: Yes; DatasheetVersion: SCES224R; PackageReference: DBV0005A; Supplier 1: Mouser; Supplier Part Number 1: 595-SN74LVC1G126DBVT; Supplier 2: Digi-Key; Supplier Part Number 2: 296-32293-2-ND; Supplier 3: Digi-Key; Supplier Part Number 3: 296-32293-1-ND; Supplier 4: Digi-Key; Supplier Part Number 4: 296-32293-6-ND; Operating Temperature Range(C): -40 to 125,-40 to 85; ComponentLink1Description: Manufacturer URL; ComponentLink1URL: http://www.ti.com/; ComponentLink2Description: Datasheet; ComponentLink2URL: http://www.ti.com/lit/ds/symlink/sn74lvc1g126.pdf
footprint DBV0005A_N (SOT23, 5-Leads, Body 3.05x1.75mm, Pitch 0.95mm, IPC Medium Density)
footprint DBV0005A_M (SOT23, 5-Leads, Body 3.05x1.75mm, Pitch 0.95mm, IPC Low Density)
footprint DBV0005A_L (SOT23, 5-Leads, Body 3.05x1.75mm, Pitch 0.95mm, IPC High Density)
part A pins: 1 OE (in), 2 A (in), 4 Y (hiz)
part B pins: 3 GND (power), 5 VCC (power)

## SN74LVC1G126DCKR
designator U?
Single Bus Buffer Gate With 3-State Outputs, DCK0005A, LARGE T&R; Generic Part Number: SN74LVC1G126; Manufacturer: Texas Instruments; PartNumber: SN74LVC1G126DCKR; VCC(Min)(V): 1.65; VCC(Max)(V): 5.5; Output Type: CMOS; ICC @ Nom Voltage(Max)(mA): 0.01; Input Type: CMOS/TTL; Bits(#): 1; F @ Nom Voltage(Max)(Mhz): 150; Rating: Catalog; Technology Family: LVC; Voltage(Nom)(V): 1.8,2.5,3.3,5; Schmitt Trigger: No; Output Drive (IOL/IOH)(Max)(mA): 32/-32; tpd @ Nom Voltage(Max)(ns): 8,5.5,4.5,4; Logic: True; Sub-Family: Non-Inverting Buffer/Driver; 3-State Output: Yes; DatasheetVersion: SCES224R; PackageReference: DCK0005A; Supplier 1: Mouser; Supplier Part Number 1: 595-SN74LVC1G126DCKR; Supplier 2: Digi-Key; Supplier Part Number 2: 296-11606-2-ND; Supplier 3: Digi-Key; Supplier Part Number 3: 296-11606-1-ND; Supplier 4: Digi-Key; Supplier Part Number 4: 296-11606-6-ND; Operating Temperature Range(C): -40 to 125,-40 to 85; ComponentLink1Description: Manufacturer URL; ComponentLink1URL: http://www.ti.com/; ComponentLink2Description: Datasheet; ComponentLink2URL: http://www.ti.com/lit/ds/symlink/sn74lvc1g126.pdf
footprint DCK0005A_N (SOT23, 5-Leads, Body 2.15x1.4mm, Pitch 0.65mm, IPC Medium Density)
footprint DCK0005A_M (SOT23, 5-Leads, Body 2.15x1.4mm, Pitch 0.65mm, IPC Low Density)
footprint DCK0005A_L (SOT23, 5-Leads, Body 2.15x1.4mm, Pitch 0.65mm, IPC High Density)
part A pins: 1 OE (in), 2 A (in), 4 Y (hiz)
part B pins: 3 GND (power), 5 VCC (power)

## SN74LVC1G126DCKT
designator U?
Single Bus Buffer Gate With 3-State Outputs, DCK0005A, SMALL T&R; Generic Part Number: SN74LVC1G126; Manufacturer: Texas Instruments; PartNumber: SN74LVC1G126DCKT; VCC(Min)(V): 1.65; VCC(Max)(V): 5.5; Output Type: CMOS; ICC @ Nom Voltage(Max)(mA): 0.01; Input Type: CMOS/TTL; Bits(#): 1; F @ Nom Voltage(Max)(Mhz): 150; Rating: Catalog; Technology Family: LVC; Voltage(Nom)(V): 1.8,2.5,3.3,5; Schmitt Trigger: No; Output Drive (IOL/IOH)(Max)(mA): 32/-32; tpd @ Nom Voltage(Max)(ns): 8,5.5,4.5,4; Logic: True; Sub-Family: Non-Inverting Buffer/Driver; 3-State Output: Yes; DatasheetVersion: SCES224R; PackageReference: DCK0005A; Supplier 1: Mouser; Supplier Part Number 1: 595-SN74LVC1G126DCKT; Supplier 2: Digi-Key; Supplier Part Number 2: 296-32294-2-ND; Supplier 3: Digi-Key; Supplier Part Number 3: 296-32294-1-ND; Supplier 4: Digi-Key; Supplier Part Number 4: 296-32294-6-ND; Operating Temperature Range(C): -40 to 125,-40 to 85; ComponentLink1Description: Manufacturer URL; ComponentLink1URL: http://www.ti.com/; ComponentLink2Description: Datasheet; ComponentLink2URL: http://www.ti.com/lit/ds/symlink/sn74lvc1g126.pdf
footprint DCK0005A_N (SOT23, 5-Leads, Body 2.15x1.4mm, Pitch 0.65mm, IPC Medium Density)
footprint DCK0005A_M (SOT23, 5-Leads, Body 2.15x1.4mm, Pitch 0.65mm, IPC Low Density)
footprint DCK0005A_L (SOT23, 5-Leads, Body 2.15x1.4mm, Pitch 0.65mm, IPC High Density)
part A pins: 1 OE (in), 2 A (in), 4 Y (hiz)
part B pins: 3 GND (power), 5 VCC (power)

## SN74LVC1G126DRLR
designator U?
Single Bus Buffer Gate With 3-State Outputs, DRL0005A, LARGE T&R; Generic Part Number: SN74LVC1G126; Manufacturer: Texas Instruments; PartNumber: SN74LVC1G126DRLR; VCC(Min)(V): 1.65; VCC(Max)(V): 5.5; Output Type: CMOS; ICC @ Nom Voltage(Max)(mA): 0.01; Input Type: CMOS/TTL; Bits(#): 1; F @ Nom Voltage(Max)(Mhz): 150; Rating: Catalog; Technology Family: LVC; Voltage(Nom)(V): 1.8,2.5,3.3,5; Schmitt Trigger: No; Output Drive (IOL/IOH)(Max)(mA): 32/-32; tpd @ Nom Voltage(Max)(ns): 8,5.5,4.5,4; Logic: True; Sub-Family: Non-Inverting Buffer/Driver; 3-State Output: Yes; DatasheetVersion: SCES224R; PackageReference: DRL0005A; Supplier 1: Mouser; Supplier Part Number 1: 595-SN74LVC1G126DRLR; Supplier 2: Digi-Key; Supplier Part Number 2: 296-18013-2-ND; Supplier 3: Digi-Key; Supplier Part Number 3: 296-18013-1-ND; Supplier 4: Digi-Key; Supplier Part Number 4: 296-18013-6-ND; Operating Temperature Range(C): -40 to 125,-40 to 85; ComponentLink1Description: Manufacturer URL; ComponentLink1URL: http://www.ti.com/; ComponentLink2Description: Datasheet; ComponentLink2URL: http://www.ti.com/lit/ds/symlink/sn74lvc1g126.pdf
footprint DRL0005A_N (SOT23, 5-Leads, Body 1.7x1.3mm, Pitch 0.5mm, IPC Medium Density)
footprint DRL0005A_M (SOT23, 5-Leads, Body 1.7x1.3mm, Pitch 0.5mm, IPC Low Density)
footprint DRL0005A_L (SOT23, 5-Leads, Body 1.7x1.3mm, Pitch 0.5mm, IPC High Density)
part A pins: 1 OE (in), 2 A (in), 4 Y (hiz)
part B pins: 3 GND (power), 5 VCC (power)

## SN74LVC1G126DRYR
designator U?
Single Bus Buffer Gate With 3-State Outputs, DRY0006A, LARGE T&R; Generic Part Number: SN74LVC1G126; Manufacturer: Texas Instruments; PartNumber: SN74LVC1G126DRYR; VCC(Min)(V): 1.65; VCC(Max)(V): 5.5; Output Type: CMOS; ICC @ Nom Voltage(Max)(mA): 0.01; Input Type: CMOS/TTL; Bits(#): 1; F @ Nom Voltage(Max)(Mhz): 150; Rating: Catalog; Technology Family: LVC; Voltage(Nom)(V): 1.8,2.5,3.3,5; Schmitt Trigger: No; Output Drive (IOL/IOH)(Max)(mA): 32/-32; tpd @ Nom Voltage(Max)(ns): 8,5.5,4.5,4; Logic: True; Sub-Family: Non-Inverting Buffer/Driver; 3-State Output: Yes; DatasheetVersion: SCES224R; PackageReference: DRY0006A; Supplier 1: Mouser; Supplier Part Number 1: 595-SN74LVC1G126DRYR; Supplier 2: Digi-Key; Supplier Part Number 2: 296-21817-2-ND; Supplier 3: Digi-Key; Supplier Part Number 3: 296-21817-1-ND; Supplier 4: Digi-Key; Supplier Part Number 4: 296-21817-6-ND; Operating Temperature Range(C): -40 to 125,-40 to 85; ComponentLink1Description: Manufacturer URL; ComponentLink1URL: http://www.ti.com/; ComponentLink2Description: Datasheet; ComponentLink2URL: http://www.ti.com/lit/ds/symlink/sn74lvc1g126.pdf
footprint DRY0006A_V (SON, 6-Leads, Body 1.45x1mm, Pitch 0.5mm)
part A pins: 1 OE (in), 2 A (in), 4 Y (hiz)
part B pins: 3 GND (power), 5 NC, 6 VCC (power)

## SN74LVC1G126DSFR
designator U?
Single Bus Buffer Gate With 3-State Outputs, DSF0006A, LARGE T&R; Generic Part Number: SN74LVC1G126; Manufacturer: Texas Instruments; PartNumber: SN74LVC1G126DSFR; VCC(Min)(V): 1.65; VCC(Max)(V): 5.5; Output Type: CMOS; ICC @ Nom Voltage(Max)(mA): 0.01; Input Type: CMOS/TTL; Bits(#): 1; F @ Nom Voltage(Max)(Mhz): 150; Rating: Catalog; Technology Family: LVC; Voltage(Nom)(V): 1.8,2.5,3.3,5; Schmitt Trigger: No; Output Drive (IOL/IOH)(Max)(mA): 32/-32; tpd @ Nom Voltage(Max)(ns): 8,5.5,4.5,4; Logic: True; Sub-Family: Non-Inverting Buffer/Driver; 3-State Output: Yes; DatasheetVersion: SCES224R; PackageReference: DSF0006A; Supplier 1: Mouser; Supplier Part Number 1: 595-SN74LVC1G126DSFR; Supplier 2: Digi-Key; Supplier Part Number 2: 296-36724-2-ND; Supplier 3: Digi-Key; Supplier Part Number 3: 296-36724-1-ND; Supplier 4: Digi-Key; Supplier Part Number 4: 296-36724-6-ND; Operating Temperature Range(C): -40 to 125,-40 to 85; ComponentLink1Description: Manufacturer URL; ComponentLink1URL: http://www.ti.com/; ComponentLink2Description: Datasheet; ComponentLink2URL: http://www.ti.com/lit/ds/symlink/sn74lvc1g126.pdf
footprint DSF0006A_V (SON, 6-Leads, Body 1x1mm, Pitch 0.35mm, TI Recommend)
part A pins: 1 OE (in), 2 A (in), 4 Y (hiz)
part B pins: 3 GND (power), 5 NC, 6 VCC (power)

## SN74LVC1G126YZPR
designator U?
Single Bus Buffer Gate With 3-State Outputs, YZP0005AEAE, LARGE T&R; Generic Part Number: SN74LVC1G126; Manufacturer: Texas Instruments; PartNumber: SN74LVC1G126YZPR; VCC(Min)(V): 1.65; VCC(Max)(V): 5.5; Output Type: CMOS; ICC @ Nom Voltage(Max)(mA): 0.01; Input Type: CMOS/TTL; Bits(#): 1; F @ Nom Voltage(Max)(Mhz): 150; Rating: Catalog; Technology Family: LVC; Voltage(Nom)(V): 1.8,2.5,3.3,5; Schmitt Trigger: No; Output Drive (IOL/IOH)(Max)(mA): 32/-32; tpd @ Nom Voltage(Max)(ns): 8,5.5,4.5,4; Logic: True; Sub-Family: Non-Inverting Buffer/Driver; 3-State Output: Yes; DatasheetVersion: SCES224R; PackageReference: YZP0005AEAE; Supplier 1: Mouser; Supplier Part Number 1: 595-SN74LVC1G126YZPR; Supplier 2: Digi-Key; Supplier Part Number 2: 296-14361-2-ND; Supplier 3: Digi-Key; Supplier Part Number 3: 296-14361-1-ND; Supplier 4: Digi-Key; Supplier Part Number 4: 296-14361-6-ND; Operating Temperature Range(C): -40 to 125,-40 to 85; ComponentLink1Description: Manufacturer URL; ComponentLink1URL: http://www.ti.com/; ComponentLink2Description: Datasheet; ComponentLink2URL: http://www.ti.com/lit/ds/symlink/sn74lvc1g126.pdf
footprint YZP0005AEAE (BGA, 5-Balls, Body 1.39x0.89mm, Pitch 0.5mm)
part A pins: A1 OE (in) "OE Enable/Input", B1 A (in) "A Input", C2 Y (hiz) "Y Output"
part B pins: A2 VCC (power) "Power Pin", C1 GND (power) "Ground Pin"

## SN74LVC1G132DBVR
designator U?
Single 2-Input NAND Gate with Schmitt-Trigger Input, DBV0005A, LARGE T&R; Generic Part Number: SN74LVC1G132; Manufacturer: Texas Instruments; PartNumber: SN74LVC1G132DBVR; VCC(Min)(V): 1.65; VCC(Max)(V): 5.5; Output Type: CMOS; ICC @ Nom Voltage(Max)(mA): 0.01; Input Type: CMOS/TTL; Bits(#): 1; F @ Nom Voltage(Max)(Mhz): 150; Rating: Catalog; Technology Family: LVC; Voltage(Nom)(V): 1.8,2.5,3.3,5; Schmitt Trigger: Yes; Output Drive (IOL/IOH)(Max)(mA): 32/-32; tpd @ Nom Voltage(Max)(ns): 16,7.5,6,5; Logic: True; 3-State Output: No; DatasheetVersion: SCES546C; PackageReference: DBV0005A; Supplier 1: Mouser; Supplier Part Number 1: 595-SN74LVC1G132DBVR; Supplier 2: Digi-Key; Supplier Part Number 2: 296-17888-2-ND; Supplier 3: Digi-Key; Supplier Part Number 3: 296-17888-1-ND; Supplier 4: Digi-Key; Supplier Part Number 4: 296-17888-6-ND; Operating Temperature Range(C): -40 to 125; Gate Type: NAND; Sub-Family: NAND Gate; ComponentLink1Description: Manufacturer URL; ComponentLink1URL: http://www.ti.com/; ComponentLink2Description: Datasheet; ComponentLink2URL: http://www.ti.com/lit/ds/symlink/sn74lvc1g132.pdf
footprint DBV0005A_N (SOT23, 5-Leads, Body 3.05x1.75mm, Pitch 0.95mm, IPC Medium Density)
footprint DBV0005A_M (SOT23, 5-Leads, Body 3.05x1.75mm, Pitch 0.95mm, IPC Low Density)
footprint DBV0005A_L (SOT23, 5-Leads, Body 3.05x1.75mm, Pitch 0.95mm, IPC High Density)
part A pins: 1 A (in) "Input A", 2 B (in) "Input B", 4 Y (out) "Output Y"
part B pins: 3 GND (power) "Ground Pin", 5 VCC (power) "Power Pin"

## SN74LVC1G132DBVT
designator U?
Single 2-Input NAND Gate with Schmitt-Trigger Input, DBV0005A, SMALL T&R; Generic Part Number: SN74LVC1G132; Manufacturer: Texas Instruments; PartNumber: SN74LVC1G132DBVT; VCC(Min)(V): 1.65; VCC(Max)(V): 5.5; Output Type: CMOS; ICC @ Nom Voltage(Max)(mA): 0.01; Input Type: CMOS/TTL; Bits(#): 1; F @ Nom Voltage(Max)(Mhz): 150; Rating: Catalog; Technology Family: LVC; Voltage(Nom)(V): 1.8,2.5,3.3,5; Schmitt Trigger: Yes; Output Drive (IOL/IOH)(Max)(mA): 32/-32; tpd @ Nom Voltage(Max)(ns): 16,7.5,6,5; Logic: True; 3-State Output: No; DatasheetVersion: SCES546C; PackageReference: DBV0005A; Supplier 1: Mouser; Supplier Part Number 1: 595-SN74LVC1G132DBVT; Supplier 2: Digi-Key; Supplier Part Number 2: 296-32295-2-ND; Supplier 3: Digi-Key; Supplier Part Number 3: 296-32295-1-ND; Supplier 4: Digi-Key; Supplier Part Number 4: 296-32295-6-ND; Operating Temperature Range(C): -40 to 125; Gate Type: NAND; Sub-Family: NAND Gate; ComponentLink1Description: Manufacturer URL; ComponentLink1URL: http://www.ti.com/; ComponentLink2Description: Datasheet; ComponentLink2URL: http://www.ti.com/lit/ds/symlink/sn74lvc1g132.pdf
footprint DBV0005A_N (SOT23, 5-Leads, Body 3.05x1.75mm, Pitch 0.95mm, IPC Medium Density)
footprint DBV0005A_M (SOT23, 5-Leads, Body 3.05x1.75mm, Pitch 0.95mm, IPC Low Density)
footprint DBV0005A_L (SOT23, 5-Leads, Body 3.05x1.75mm, Pitch 0.95mm, IPC High Density)
part A pins: 1 A (in) "Input A", 2 B (in) "Input B", 4 Y (out) "Output Y"
part B pins: 3 GND (power) "Ground Pin", 5 VCC (power) "Power Pin"

## SN74LVC1G132DCKR
designator U?
Single 2-Input NAND Gate with Schmitt-Trigger Input, DCK0005A, LARGE T&R; Generic Part Number: SN74LVC1G132; Manufacturer: Texas Instruments; PartNumber: SN74LVC1G132DCKR; VCC(Min)(V): 1.65; VCC(Max)(V): 5.5; Output Type: CMOS; ICC @ Nom Voltage(Max)(mA): 0.01; Input Type: CMOS/TTL; Bits(#): 1; F @ Nom Voltage(Max)(Mhz): 150; Rating: Catalog; Technology Family: LVC; Voltage(Nom)(V): 1.8,2.5,3.3,5; Schmitt Trigger: Yes; Output Drive (IOL/IOH)(Max)(mA): 32/-32; tpd @ Nom Voltage(Max)(ns): 16,7.5,6,5; Logic: True; 3-State Output: No; DatasheetVersion: SCES546C; PackageReference: DCK0005A; Supplier 1: Mouser; Supplier Part Number 1: 595-SN74LVC1G132DCKR; Supplier 2: Digi-Key; Supplier Part Number 2: 296-18760-2-ND; Supplier 3: Digi-Key; Supplier Part Number 3: 296-18760-1-ND; Supplier 4: Digi-Key; Supplier Part Number 4: 296-18760-6-ND; Operating Temperature Range(C): -40 to 125; Gate Type: NAND; Sub-Family: NAND Gate; ComponentLink1Description: Manufacturer URL; ComponentLink1URL: http://www.ti.com/; ComponentLink2Description: Datasheet; ComponentLink2URL: http://www.ti.com/lit/ds/symlink/sn74lvc1g132.pdf
footprint DCK0005A_N (SOT23, 5-Leads, Body 2.15x1.4mm, Pitch 0.65mm, IPC Medium Density)
footprint DCK0005A_M (SOT23, 5-Leads, Body 2.15x1.4mm, Pitch 0.65mm, IPC Low Density)
footprint DCK0005A_L (SOT23, 5-Leads, Body 2.15x1.4mm, Pitch 0.65mm, IPC High Density)
part A pins: 1 A (in) "Input A", 2 B (in) "Input B", 4 Y (out) "Output Y"
part B pins: 3 GND (power) "Ground Pin", 5 VCC (power) "Power Pin"